# EAGLE library part 6PIN(L) (library my_connector)
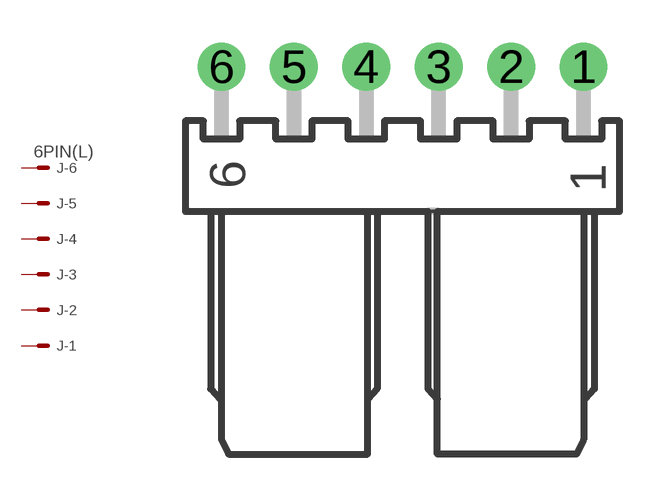
[diagram p0: symbol with the pads of 6PL; footprint 6PL]

Designator prefix J; gates -6=MV -5=M -4=M -3=M -2=M -1=M

## 6PIN(L)  [6PL]
1  -1:S  pas
2  -2:S  pas
3  -3:S  pas
4  -4:S  pas
5  -5:S  pas
6  -6:S  pas

## Footprint 6PL (pad centres in mm)
drill 1 pad 1.676: 1 6.35,3.81; 2 3.81,3.81; 3 1.27,3.81; 4 -1.27,3.81; 5 -3.81,3.81; 6 -6.35,3.81